# Altium schematic symbol library AP62800SJ-7.SchLib: 1 symbol
Pins are listed as number, name and electrical type; pins without a type are passive.

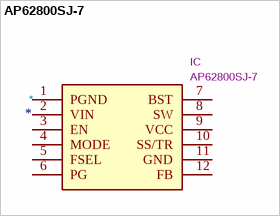
[diagram p0: symbol AP62800SJ-7]

## AP62800SJ-7
designator *  value AP62800SJ-7  Reference: IC
Manufacturer_Name: Diodes Incorporated; ki_description: Switching Voltage Regulators DCDC Conv HV Buck V-QFN2030-12 T&R 3K; Footprint: AP62800SJ7; Datasheet: https://www.diodes.com//assets/Datasheets/AP62800.pdf; Height: 0.85; Manufacturer_Part_Number: AP62800SJ-7
pins: 1 PGND, 2 VIN, 3 EN, 4 MODE, 5 FSEL, 6 PG, 7 BST, 8 SW, 9 VCC, 10 SS/TR, 11 GND, 12 FB